# EAGLE library part RF600D (library rf-solutions)
RF / IR Decoder Source: RF600D.pdf
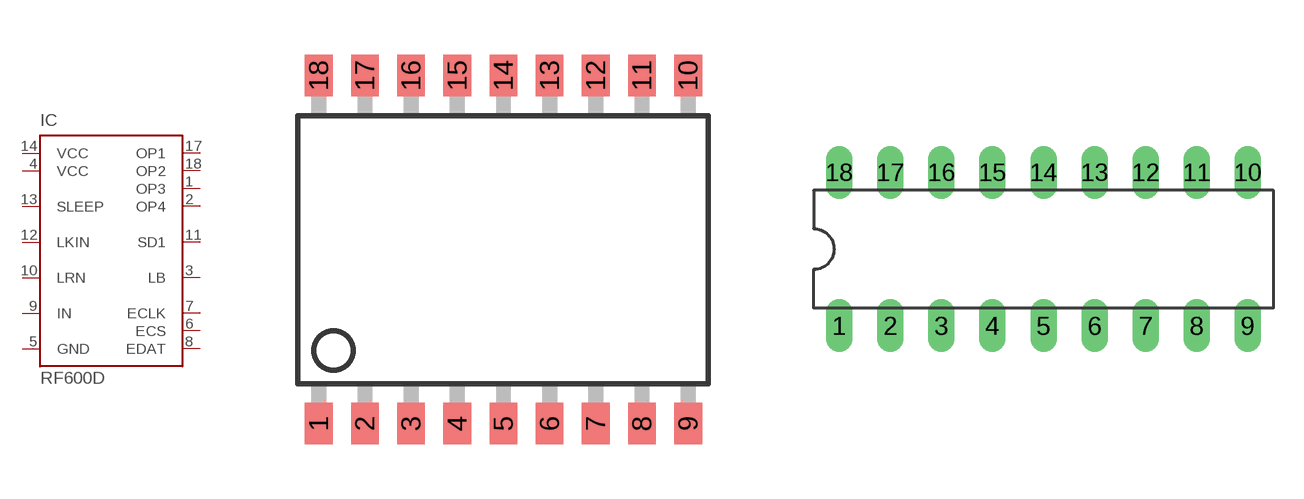
[diagram p0: symbol with the pads of SO-18W; footprints SO-18W, DIL18]

Designator prefix IC

## RF600D-SO  [SO-18W]
1  OP3  out
2  OP4  out
3  LB  out
4  VCC  in
5  GND  pwr
6  ECS  out
7  ECLK  out
8  EDAT
9  IN  in
10  LRN  in
11  SD1  out
12  LKIN  in
13  SLEEP  in
14  VCC  pwr
17  OP1  out
18  OP2  out

## RF600D  [DIL18]
Pads as for SO-18W

## Footprint SO-18W (pad centres in mm)
Small Outline Wide Plastic Gull Wing 300-mil body, package type SO
smd 0.762 x 1.143: 1 -5.08,-4.788; 2 -3.81,-4.788; 3 -2.54,-4.788; 4 -1.27,-4.788; 5 0,-4.788; 6 1.27,-4.788; 7 2.54,-4.788; 8 3.81,-4.788; 9 5.08,-4.788; 10 5.08,4.788; 11 3.81,4.788; 12 2.54,4.788; 13 1.27,4.788; 14 0,4.788; 15 -1.27,4.788; 16 -2.54,4.788; 17 -3.81,4.788; 18 -5.08,4.788

## Footprint DIL18 (pad centres in mm)
Dual In Line Package
drill 0.813 long: 1 -10.16,-3.81; 2 -7.62,-3.81; 3 -5.08,-3.81; 4 -2.54,-3.81; 5 0,-3.81; 6 2.54,-3.81; 7 5.08,-3.81; 8 7.62,-3.81; 9 10.16,-3.81; 10 10.16,3.81; 11 7.62,3.81; 12 5.08,3.81; 13 2.54,3.81; 14 0,3.81; 15 -2.54,3.81; 16 -5.08,3.81; 17 -7.62,3.81; 18 -10.16,3.81